# Altium integrated library PT01-D130D-B103.IntLib: 1 symbol
Pins are listed as number, name and electrical type; pins without a type are passive.

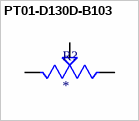
[diagram p0: symbol PT01-D130D-B103]

## PT01-D130D-B103
designator R?
10 mm, Vertical, Linear, 10 kÎ©, Through Hole, D-cut Rotary Potentiometer; MF: Same Sky; MP: PT01-D130D-B103; SnapEDA_Link: https://www.snapeda.com/parts/PT01-D130D-B103/Same+Sky/view-part/?ref=snap; Package: None; Value: *; Check_prices: https://www.snapeda.com/parts/PT01-D130D-B103/Same+Sky/view-part/?ref=eda
footprint TRIM_PT01-D130D-B103
pins: 1, 2, 3